# Altium schematic symbol library 395111010.SchLib: 1 symbol
Pins are listed as number, name and electrical type; pins without a type are passive.

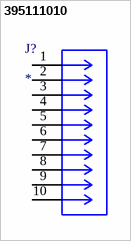
[diagram p0: symbol 395111010]

## 395111010
designator J?
Pluggable Terminal Blocks 3.81MM EURO HEADER V EADER VERT BLK 10CKT; MF: Molex; MP: 395111010; SnapEDA_Link: https://www.snapeda.com/parts/395111010/Molex/view-part/?ref=snap; Package: None; Value: *; Check_prices: https://www.snapeda.com/parts/395111010/Molex/view-part/?ref=eda
footprint CONN_SD-39511-001_10P_MOL
pins: 1, 2, 3, 4, 5, 6, 7, 8, 9, 10